# EAGLE library part 0480251190 (library Connectors)
CONN MAGJACK 1PORT 100 BASE-T Manufacturer's datasheet <https://www.molex.com/pdm_docs/sd/480251090_sd.pdf>
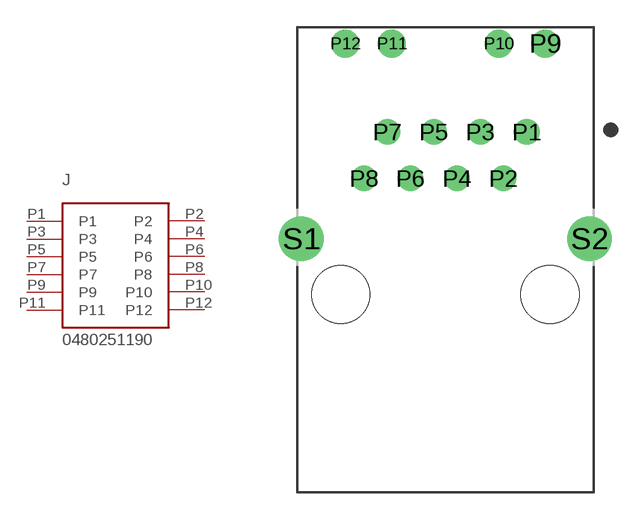
[diagram p8: symbol with the pads of JACK; footprint JACK]

Designator prefix J

## 0480251190 (CREATED_BY: PCBLayout.com; DIGIKEY_PART_NUMBER: WM5484-ND; MANUFACTURER: Molex; MPN: 0480251190)  [JACK]
P1  P1  pas
P2  P2  pas
P3  P3  pas
P4  P4  pas
P5  P5  pas
P6  P6  pas
P7  P7  pas
P8  P8  pas
P9  P9  pas
P10  P10  pas
P11  P11  pas
P12  P12  pas

## Footprint JACK (pad centres in mm)
drill 0.89: P1 4.44,8.89; P2 3.17,6.35; P3 1.905,8.89; P4 0.635,6.35; P5 -0.635,8.89; P6 -1.905,6.35; P7 -3.17,8.89; P8 -4.44,6.35
drill 1.02: P9 5.46,13.72; P10 2.92,13.72; P11 -2.92,13.72; P12 -5.46,13.72
drill 1.63: S1 -7.87,3.05; S2 7.87,3.05
hole 3.18 at -5.715,0
hole 3.18 at 5.715,0